# Altium footprint library Texas_Instruments.PcbLib: 55 footprints (part 2 of 4)
Each footprint in its own frame and in the unit in brackets; x right, y up, seen from the top. Pads: shape width x height; smd on the part's side, far side on the other; paste and mask are expansions set on the pad; w line width, h text height; cw(c..) or ccw(c..) is an arc to the next point about the centre after c.
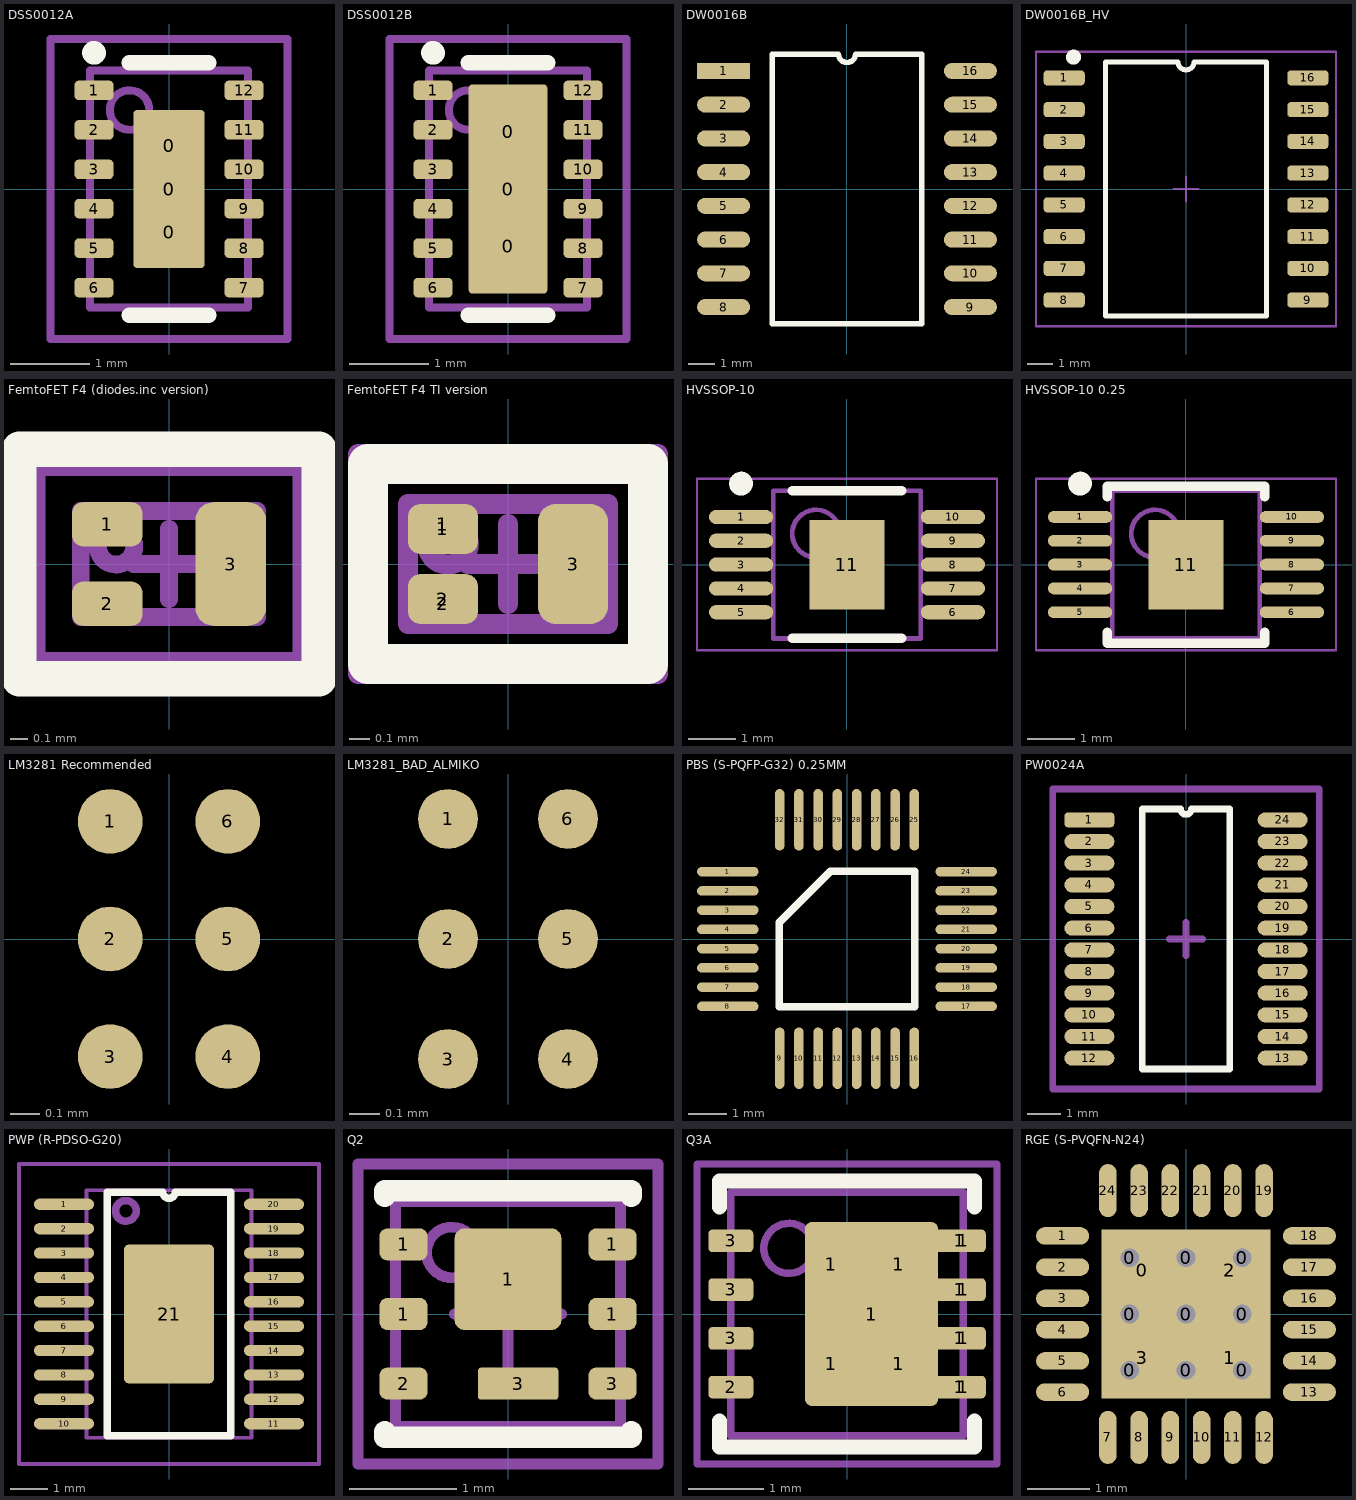
[diagram p1: the footprints below, top view; thin cyan lines are the x and y axes]

## DSS0012A [mm]
height 0.8
pads (15):
  rrect10% 0.9x0.9 smd: 0(0,-0.55) 0(0,0.55)
  rrect10% 0.9x2 smd paste-2: 0(0,0)
  rrect50% 0.5x0.25 smd: 1(-0.95,1.25) 2(-0.95,0.75) 3(-0.95,0.25) 4(-0.95,-0.25) 5(-0.95,-0.75) 6(-0.95,-1.25) 7(0.95,-1.25) 8(0.95,-0.75) 9(0.95,-0.25) 10(0.95,0.25) 11(0.95,0.75) 12(0.95,1.25)
Top Overlay:
  circle w0.2: c-0.95,1.725 r0.05
  lines w0.2: -0.5,-1.6 0.5,-1.6 ; -0.5,1.6 0.5,1.6
Mechanical 13:
  circle w0.1: c-0.5,1 r0.25
  lines w0.1: -1,-1.5 1,-1.5 1,1.5 -1,1.5 -1,-1.5
Mechanical 15:
  lines w0.1: -0.2,0 0.2,0 ; 0,-0.2 0,0.2 ; -1.5,-1.9 1.5,-1.9 1.5,1.9 -1.5,1.9 -1.5,-1.9
3D body: height 0.85, standoff 0, extent -0.748,0.751 -0.25,1.25
3D body: height 0.8, standoff 0, extent -1,-1.5 1,1.5

## DSS0012B [mm]
height 0.8
pads (15):
  rrect10% 0.95x1.15 smd: 0(0,-0.725) 0(0,0.725)
  rrect10% 1x2.65 smd paste-2: 0(0,0)
  rrect50% 0.5x0.25 smd: 1(-0.95,1.25) 2(-0.95,0.75) 3(-0.95,0.25) 4(-0.95,-0.25) 5(-0.95,-0.75) 6(-0.95,-1.25) 7(0.95,-1.25) 8(0.95,-0.75) 9(0.95,-0.25) 10(0.95,0.25) 11(0.95,0.75) 12(0.95,1.25)
Top Overlay:
  circle w0.2: c-0.95,1.725 r0.05
  lines w0.2: -0.5,-1.6 0.5,-1.6 ; -0.5,1.6 0.5,1.6
Mechanical 13:
  circle w0.1: c-0.5,1 r0.25
  lines w0.1: -1,-1.5 1,-1.5 1,1.5 -1,1.5 -1,-1.5
Mechanical 15:
  lines w0.1: -0.2,0 0.2,0 ; 0,-0.2 0,0.2 ; -1.5,-1.9 1.5,-1.9 1.5,1.9 -1.5,1.9 -1.5,-1.9
3D body: height 0.85, standoff 0, extent -0.748,0.751 -0.25,1.25
3D body: height 0.8, standoff 0, extent -1,-1.5 1,1.5

## DW0016B [mm] "SOIC with 7.3mm clearance/creepage, IPC-7351"
pads (16):
  rect 2x0.6 smd: 1(-4.65,4.445)
  oval 2x0.6 smd: 2(-4.65,3.175) 3(-4.65,1.905) 4(-4.65,0.635) 5(-4.65,-0.635) 6(-4.65,-1.905) 7(-4.65,-3.175) 8(-4.65,-4.445) 9(4.65,-4.445) 10(4.65,-3.175) 11(4.65,-1.905) 12(4.65,-0.635) 13(4.65,0.635) 14(4.65,1.905) 15(4.65,3.175) 16(4.65,4.445)
Top Overlay:
  lines w0.2: -2.815,-5.08 -2.815,5.08 -0.318,5.08 ccw(c0,5.08) 0.318,5.08 2.815,5.08 2.815,-5.08 -2.815,-5.08
3D body: height 2.65, standoff 0, extent -5.315,-5.25 5.315,5.25

## DW0016B_HV [mm]
pads (16):
  rrect50% 1.65x0.6 smd: 1(-4.875,4.445) 2(-4.875,3.175) 3(-4.875,1.905) 4(-4.875,0.635) 5(-4.875,-0.635) 6(-4.875,-1.905) 7(-4.875,-3.175) 8(-4.875,-4.445) 9(4.875,-4.445) 10(4.875,-3.175) 11(4.875,-1.905) 12(4.875,-0.635) 13(4.875,0.635) 14(4.875,1.905) 15(4.875,3.175) 16(4.875,4.445)
Top Overlay:
  circle w0.3: c-4.5,5.275 r0.15
  lines w0.2: -3.215,-5.08 3.215,-5.08 3.215,5.08 0.318,5.08 cw(c0,5.08) -0.318,5.08 -3.215,5.08 -3.215,-5.08
Mechanical 15:
  lines w0.1: -0.5,0 0.5,0 ; 0,-0.5 0,0.5 ; -6,-5.5 6,-5.5 6,5.5 -6,5.5 -6,-5.5
3D body: height 2.65, standoff 0, extent -5.315,-5.25 5.315,5.25

## FemtoFET F4 (diodes.inc version) [mm] "Also X2-DSN1006-3 by Diodes Inc."
height 0.2
pads (3):
  rrect50% 0.4x0.25 smd: 1(-0.35,0.225) 2(-0.35,-0.225)
  rrect50% 0.4x0.7 smd: 3(0.35,0)
Top Overlay:
  lines w0.2: -0.85,-0.65 0.85,-0.65 0.85,0.65 -0.85,0.65 -0.85,-0.65
Mechanical 13:
  circle w0.1: c-0.3,0.1 r0.103
  lines w0.1: -0.5,-0.3 0.5,-0.3 0.5,0.3 -0.5,0.3 -0.5,-0.3
Mechanical 15:
  lines w0.1: -0.2,0 0.2,0 ; 0,-0.2 0,0.2 ; -0.75,-0.55 0.75,-0.55 0.75,0.55 -0.75,0.55 -0.75,-0.55
3D body: height 0.2, standoff 0, extent -0.5,-0.3 0.5,0.3

## FemtoFET F4 TI version [mm] "Also X2-DSN1006-3 by Diodes Inc."
height 0.2
pads (5):
  rrect50% 0.35x0.25 smd paste-1 mask-0.05: 1(-0.325,0.175) 2(-0.325,-0.175)
  rrect50% 0.25x0.2 on Top Paste paste-0.05 mask-0.05: 1(-0.325,0.2) 2(-0.325,-0.2)
  rrect50% 0.35x0.6 smd paste-0.05 mask-0.05: 3(0.325,0)
Top Overlay:
  lines w0.2: -0.7,-0.5 0.7,-0.5 0.7,0.5 -0.7,0.5 -0.7,-0.5
Mechanical 13:
  circle w0.1: c-0.3,0.1 r0.103
  lines w0.1: -0.5,-0.3 0.5,-0.3 0.5,0.3 -0.5,0.3 -0.5,-0.3
Mechanical 15:
  lines w0.1: -0.2,0 0.2,0 ; 0,-0.2 0,0.2 ; -0.75,-0.55 0.75,-0.55 0.75,0.55 -0.75,0.55 -0.75,-0.55
3D body: height 0.2, standoff 0, extent -0.5,-0.3 0.5,0.3

## HVSSOP-10 [mm] "TSSOP, 10-Leads, Body 3,00x3,00mm, Pitch 0,50mm, Thermal Pad 1,88x1,57mm, IPC Medium Density"
height 1.1
pads (11):
  oval 1.35x0.3 smd: 1(-2.225,1) 2(-2.225,0.5) 3(-2.225,0) 4(-2.225,-0.5) 5(-2.225,-1) 6(2.225,-1) 7(2.225,-0.5) 8(2.225,0) 9(2.225,0.5) 10(2.225,1)
  rect 1.57x1.88 smd: 11(0,0)
Top Overlay:
  circle w0.25: c-2.225,1.7 r0.125
  lines w0.2: -1.15,-1.55 1.15,-1.55 ; -1.15,1.55 1.15,1.55
Mechanical 13:
  circle w0.1: c-0.65,0.65 r0.5
  lines w0.1: -1.55,-1.55 1.55,-1.55 1.55,1.55 -1.55,1.55 -1.55,-1.55
Mechanical 15:
  lines w0.05: -3.15,-1.8 3.15,-1.8 3.15,1.8 -3.15,1.8 -3.15,-1.8
  lines w0.1: -0.5,0 0.5,0 ; 0,-0.5 0,0.5
3D body: height 1.1, standoff 0, extent -2.45,-1.55 2.45,1.55

## HVSSOP-10 0.25 [mm] "TSSOP, 10-Leads, Body 3,00x3,00mm, Pitch 0,50mm, Thermal Pad 1,88x1,57mm, IPC Medium Density"
height 1.1
pads (11):
  oval 1.35x0.25 smd: 1(-2.225,1) 2(-2.225,0.5) 3(-2.225,0) 4(-2.225,-0.5) 5(-2.225,-1) 6(2.225,-1) 7(2.225,-0.5) 8(2.225,0) 9(2.225,0.5) 10(2.225,1)
  rect 1.57x1.88 smd: 11(0,0)
Top Overlay:
  circle w0.25: c-2.225,1.7 r0.125
  lines w0.2: -1.65,-1.425 -1.65,-1.65 1.65,-1.65 1.65,-1.425 ; -1.65,1.425 -1.65,1.65 1.65,1.65 1.65,1.425
Mechanical 13:
  circle w0.1: c-0.65,0.65 r0.5
  lines w0.1: -1.55,-1.55 -1.55,1.55 1.55,1.55 1.55,-1.55 -1.55,-1.55
Mechanical 15:
  lines w0.05: -3.15,-1.8 -3.15,1.8 3.15,1.8 3.15,-1.8 -3.15,-1.8
  lines w0.1: -0.5,0 0.5,0 ; 0,-0.5 0,0.5
3D body: height 1.1, standoff 0, extent -2.45,-1.55 2.45,1.55

## LM3281 Recommended [mm]
pads (6):
  round 0.22 smd mask+0.05: 1(-0.2,0.4) 2(-0.2,0) 3(-0.2,-0.4) 4(0.2,-0.4) 5(0.2,0) 6(0.2,0.4)
3D body: height 0.6, standoff 0, extent -0.6,-0.75 0.6,0.75

## LM3281_BAD_ALMIKO [mm]
pads (6):
  round 0.2 smd: 1(-0.2,0.4) 2(-0.2,0) 3(-0.2,-0.4) 4(0.2,-0.4) 5(0.2,0) 6(0.2,0.4)
3D body: height 0.6, standoff 0, extent -0.6,-0.75 0.6,0.75

## PBS (S-PQFP-G32) 0.25MM [mm]
pads (32):
  oval 1.6x0.25 smd: 1(-3.1,1.75) 2(-3.1,1.25) 3(-3.1,0.75) 4(-3.1,0.25) 5(-3.1,-0.25) 6(-3.1,-0.75) 7(-3.1,-1.25) 8(-3.1,-1.75) 17(3.1,-1.75) 18(3.1,-1.25) 19(3.1,-0.75) 20(3.1,-0.25) 21(3.1,0.25) 22(3.1,0.75) 23(3.1,1.25) 24(3.1,1.75)
  oval 0.25x1.6 smd: 9(-1.75,-3.1) 10(-1.25,-3.1) 11(-0.75,-3.1) 12(-0.25,-3.1) 13(0.25,-3.1) 14(0.75,-3.1) 15(1.25,-3.1) 16(1.75,-3.1) 25(1.75,3.1) 26(1.25,3.1) 27(0.75,3.1) 28(0.25,3.1) 29(-0.25,3.1) 30(-0.75,3.1) 31(-1.25,3.1) 32(-1.75,3.1)
Top Overlay:
  lines w0.2: -1.765,-1.765 -1.765,0.43 -0.43,1.765 1.765,1.765 1.765,-1.765 -1.765,-1.765
3D body: height 1.2, standoff -0.03, extent -3.5,-3.5 3.5,3.5

## PW0024A [mm]
pads (24):
  rrect50% 1.5x0.45 smd: 1(-2.9,3.575)
  oval 1.5x0.45 smd: 2(-2.9,2.925) 3(-2.9,2.275) 4(-2.9,1.625) 5(-2.9,0.975) 6(-2.9,0.325) 7(-2.9,-0.325) 8(-2.9,-0.975) 9(-2.9,-1.625) 10(-2.9,-2.275) 11(-2.9,-2.925) 12(-2.9,-3.575) 13(2.9,-3.575) 14(2.9,-2.925) 15(2.9,-2.275) 16(2.9,-1.625) 17(2.9,-0.975) 18(2.9,-0.325) 19(2.9,0.325) 20(2.9,0.975) 21(2.9,1.625) 22(2.9,2.275) 23(2.9,2.925) 24(2.9,3.575)
Top Overlay:
  lines w0.2: -1.315,-3.9 -1.315,3.9 -0.162,3.9 ccw(c0,3.9) 0.162,3.9 1.315,3.9 1.315,-3.9 -1.315,-3.9
Mechanical 15:
  lines w0.2: -0.5,0 0.5,0 ; 0,-0.5 0,0.5 ; -4,-4.5 -4,4.5 4,4.5 4,-4.5 -4,-4.5
3D body: height 1.2, standoff 0, extent -3.278,-3.95 3.278,3.95

## PWP (R-PDSO-G20) [mm]
pads (21):
  oval 1.6x0.3 smd: 1(-2.8,2.925) 2(-2.8,2.275) 3(-2.8,1.625) 4(-2.8,0.975) 5(-2.8,0.325) 6(-2.8,-0.325) 7(-2.8,-0.975) 8(-2.8,-1.625) 9(-2.8,-2.275) 10(-2.8,-2.925) 11(2.8,-2.925) 12(2.8,-2.275) 13(2.8,-1.625) 14(2.8,-0.975) 15(2.8,-0.325) 16(2.8,0.325) 17(2.8,0.975) 18(2.8,1.625) 19(2.8,2.275) 20(2.8,2.925)
  rrect10% 2.4x3.7 smd: 21(0,0)
Top Overlay:
  lines w0.2: -1.65,-3.25 -1.65,3.25 -0.162,3.25 ccw(c0,3.25) 0.162,3.25 1.65,3.25 1.65,-3.25 -1.65,-3.25
Mechanical 13:
  circle w0.2: c-1.15,2.75 r0.276
  lines w0.1: -2.2,-3.3 2.2,-3.3 2.2,3.3 -2.2,3.3 -2.2,-3.3
Mechanical 15:
  lines w0.1: -0.5,0 0.5,0 ; 0,-0.5 0,0.5 ; -4,-4 -4,4 4,4 4,-4 -4,-4
3D body: height 1.2, standoff 0, extent -3.3,-3.3 3.3,3.3

## Q2 [mm]
pads (8):
  rrect50% 0.45x0.3 smd: 1(-0.975,0) 1(-0.975,0.65) 1(0.975,0) 1(0.975,0.65) 2(-0.975,-0.65) 3(0.975,-0.65)
  rrect20% 1x0.95 smd paste-0.05: 1(0,0.325)
  rrect20% 0.75x0.3 smd paste-0.025: 3(0.095,-0.65)
Top Overlay:
  lines w0.2: -1.15,-1.1 -1.15,-1.15 1.15,-1.15 1.15,-1.1 ; -1.15,1.1 -1.15,1.15 1.15,1.15 1.15,1.1
Mechanical 13:
  circle w0.1: c-0.525,0.575 r0.236
  lines w0.1: -1.05,-1.05 1.05,-1.05 1.05,1.05 -1.05,1.05 -1.05,-1.05
Mechanical 15:
  lines w0.1: -0.5,0 0.5,0 ; 0,-0.5 0,0.5 ; -1.4,-1.4 1.4,-1.4 1.4,1.4 -1.4,1.4 -1.4,-1.4
3D body: height 0.9, standoff 0, extent -1.05,-1.05 1.05,1.05

## Q3A [mm] "MOSFET N channel"
pads (17):
  rrect25% 0.7x1.125 smd: 1(-0.209,-0.662) 1(-0.209,0.662) 1(0.691,-0.662) 1(0.691,0.662)
  rrect10% 1.775x2.45 smd paste-2: 1(0.328,0)
  rrect35% 0.7x0.3 smd paste-2: 1(1.5,-0.975) 1(1.5,-0.325) 1(1.5,0.325) 1(1.5,0.975)
  rrect35% 0.6x0.3 smd: 1(1.55,-0.975) 1(1.55,-0.325) 1(1.55,0.325) 1(1.55,0.975) 2(-1.55,-0.975) 3(-1.55,-0.325) 3(-1.55,0.325) 3(-1.55,0.975)
Top Overlay:
  lines w0.2: -1.7,-1.425 -1.7,-1.775 1.7,-1.775 1.7,-1.425 ; -1.7,1.425 -1.7,1.775 1.7,1.775 1.7,1.425
Mechanical 13:
  circle w0.1: c-0.775,0.875 r0.334
  lines w0.1: -1.55,-1.625 -1.55,1.625 1.55,1.625 1.55,-1.625 -1.55,-1.625
Mechanical 15:
  lines w0.1: -0.5,0 0.5,0 ; 0,-0.5 0,0.5 ; -2,-2 2,-2 2,2 -2,2 -2,-2
3D body: height 0.9, standoff 0, extent -1.55,-1.625 1.55,1.625

## RGE (S-PVQFN-N24) [mm]
pads (37):
  rect 0.9x0.9 hole 0.3 unplated: 0(-0.9,-0.9) 0(-0.9,0) 0(-0.9,0.9) 0(0,-0.9) 0(0,0) 0(0,0.9) 0(0.9,-0.9) 0(0.9,0) 0(0.9,0.9)
  rect 1.1x1.1 on Top Paste: 0(-0.7,0.7) 1(0.7,-0.7) 2(0.7,0.7) 3(-0.7,-0.7)
  oval 0.85x0.28 smd: 1(-1.975,1.25) 2(-1.975,0.75) 3(-1.975,0.25) 4(-1.975,-0.25) 5(-1.975,-0.75) 6(-1.975,-1.25) 13(1.975,-1.25) 14(1.975,-0.75) 15(1.975,-0.25) 16(1.975,0.25) 17(1.975,0.75) 18(1.975,1.25)
  oval 0.28x0.85 smd: 7(-1.25,-1.975) 8(-0.75,-1.975) 9(-0.25,-1.975) 10(0.25,-1.975) 11(0.75,-1.975) 12(1.25,-1.975) 19(1.25,1.975) 20(0.75,1.975) 21(0.25,1.975) 22(-0.25,1.975) 23(-0.75,1.975) 24(-1.25,1.975)
3D body: height 1, standoff 0, extent -2,-2 2,2